# Altium footprint library PcbLib1.PcbLib: 4 footprints
Each footprint in its own frame and in the unit in brackets; x right, y up, seen from the top. Pads: shape width x height; smd on the part's side, far side on the other; paste and mask are expansions set on the pad; w line width, h text height; cw(c..) or ccw(c..) is an arc to the next point about the centre after c.
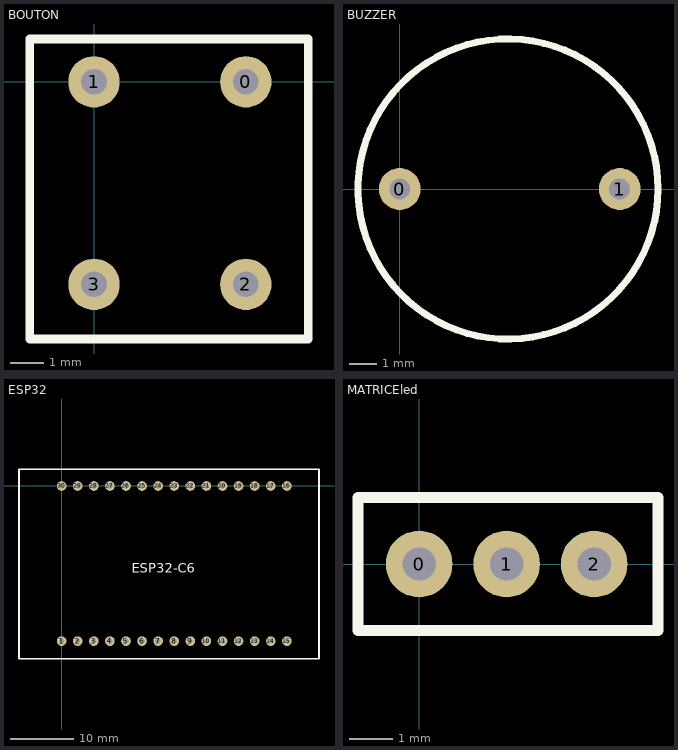
[diagram p0: the footprints below, top view; thin cyan lines are the x and y axes]

## BOUTON [mil]
pads (4):
  round 60 hole 30: 0(177.17,0) 1(0,0) 2(177.16,-236.22) 3(0,-236.22)
Top Overlay:
  lines w10: -75,-300 -75,50 250,50 250,-300 -75,-300

## BUZZER [mil]
pads (2):
  round 60 hole 30: 0(0,0) 1(314.96,0)
Top Overlay:
  circle w10: c155,0 r214.77

## ESP32 [mil]
pads (30):
  round 60 hole 30: 1(0,-964.57) 2(100,-964.57) 3(200,-964.57) 4(300,-964.57) 5(400,-964.57) 6(500,-964.57) 7(600,-964.57) 8(700,-964.57) 9(800,-964.57) 10(900,-964.57) 11(1000,-964.57) 12(1100,-964.57) 13(1200,-964.57) 14(1300,-964.57) 15(1400,-964.57) 16(1400,0) 17(1300,0) 18(1200,0) 19(1100,0) 20(1000,0) 21(900,0) 22(800,0) 23(700,0) 24(600,0) 25(500,0) 26(400,0) 27(300,0) 28(200,0) 29(100,0) 30(0,0)
Top Overlay:
  lines w10: -265,5 -265,105 1600,105 1600,-1075 -265,-1075 -265,75
  text "ESP32-C6" at 435,-540 h60

## MATRICEled [mil]
pads (3):
  round 60 hole 30: 0(0,0) 1(78.74,0) 2(157.48,0)
Top Overlay:
  lines w10: -55,-60 215,-60 215,60 -55,60 -55,-60